# EAGLE library part ESP-WROOM-02 (library additionlib)
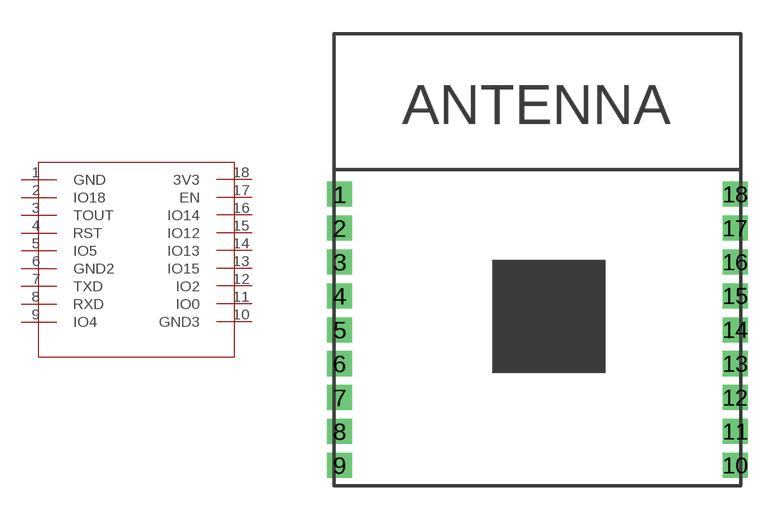
[diagram p0: symbol with the pads of ESP-WROOM-02; footprint ESP-WROOM-02]

Designator prefix -

## ESP-WROOM-02  [ESP-WROOM-02]
1  GND
2  IO18
3  TOUT
4  RST
5  IO5
6  GND2
7  TXD
8  RXD
9  IO4
10  GND3
11  IO0
12  IO2
13  IO15
14  IO13
15  IO12
16  IO14
17  EN
18  3V3

## Footprint ESP-WROOM-02 (pad centres in mm)
drill 0.6 square: 1 -7.75,-4.1; 2 -7.75,-5.6; 3 -7.75,-7.1; 4 -7.75,-8.6; 5 -7.75,-10.1; 6 -7.75,-11.6; 7 -7.75,-13.1; 8 -7.75,-14.6; 9 -7.75,-16.1; 10 9.75,-16.1; 11 9.75,-14.6; 12 9.75,-13.1; 13 9.75,-11.6; 14 9.75,-10.1; 15 9.75,-8.6; 16 9.75,-7.1; 17 9.75,-5.6; 18 9.75,-4.1